# EAGLE library part XMEGA-PDI-6 (library Atmel)
XMEGA PDI-6 Serial Programming Header
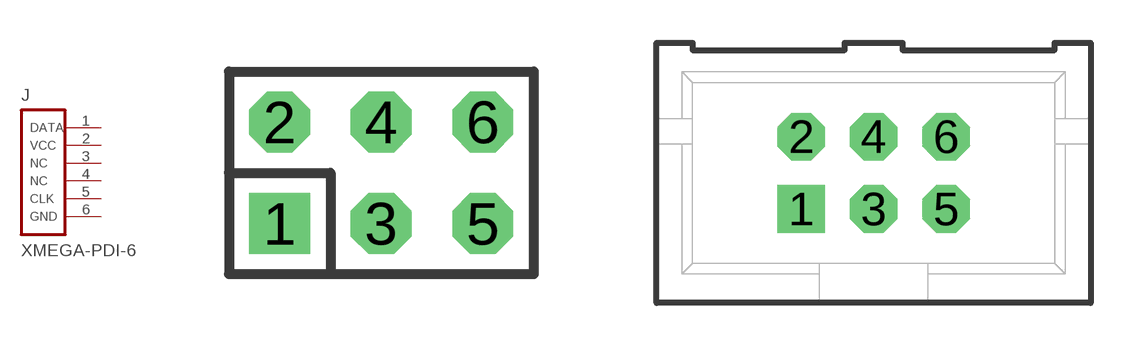
[diagram p0: symbol with the pads of HDR-MA03-2; footprints HDR-MA03-2, HDR-75869-131]

Designator prefix J

## XMEGA-PDI-6MA03-2  [HDR-MA03-2]
1  1  pas
2  2  pas
3  3  pas
4  4  pas
5  5  pas
6  6  pas

## XMEGA-PDI-675869-131  [HDR-75869-131]
Pads as for HDR-MA03-2

## XMEGA-PDI-675867-131  [HDR-75867-131]
Pads as for HDR-MA03-2

## XMEGA-PDI-6SMD100  [HDR-95278-101A06LF]
Pads as for HDR-MA03-2

## Footprint HDR-MA03-2 (pad centres in mm)
PIN HEADER
drill 1.016 square: 1 -2.54,-1.27
drill 1.016 octagon: 2 -2.54,1.27; 3 0,-1.27; 4 0,1.27; 5 2.54,-1.27; 6 2.54,1.27

## Footprint HDR-75869-131 (pad centres in mm)
VERTICAL HEADER 6 position, FCI
drill 1.016 pad 1.676 square: 1 -2.54,-1.27
drill 1.016 pad 1.676 octagon: 2 -2.54,1.27; 3 0,-1.27; 4 0,1.27; 5 2.54,-1.27; 6 2.54,1.27

## Footprint HDR-75867-131 (pad centres in mm)
RIGHT ANGLE HEADER 6 position, FCI
drill 1.016 pad 1.676 square: 1 -2.54,-2.54
drill 1.016 pad 1.676 octagon: 2 -2.54,0; 3 0,-2.54; 4 0,0; 5 2.54,-2.54; 6 2.54,0

## Footprint HDR-95278-101A06LF (pad centres in mm)
BERGSTIK HDR 6POS 0.100" SMT
smd 1.27 x 2.54: 1 -2.54,-3.365; 2 -2.54,3.365; 3 0,-3.365; 4 0,3.365; 5 2.54,-3.365; 6 2.54,3.365